# EAGLE library part SENSOR_V1.1 (library LARS_409_MODULES)
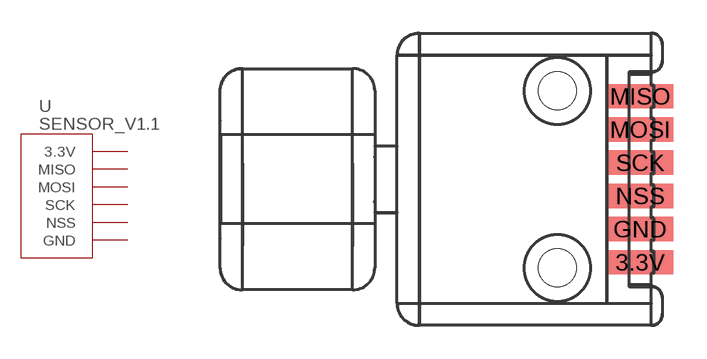
[diagram p10: symbol with the pads of SENSOR_V1.1; footprint SENSOR_V1.1]

Designator prefix U

## SENSOR_V1.1  [SENSOR_V1.1]
3.3V  3.3V
GND  GND
MISO  MISO
MOSI  MOSI
NSS  NSS
SCK  SCK

## Footprint SENSOR_V1.1 (pad centres in mm)
smd 3 x 1.1: 3.3V 15.5,-3.77; GND 15.5,-2.27; MISO 15.5,3.73; MOSI 15.5,2.23; NSS 15.5,-0.77; SCK 15.5,0.73
hole 1.7 at 11.75,-4.02
hole 1.7 at 11.75,3.98